# Altium schematic symbol library xNEO.SchLib: 5 symbols
Pins are listed as number, name and electrical type; pins without a type are passive.

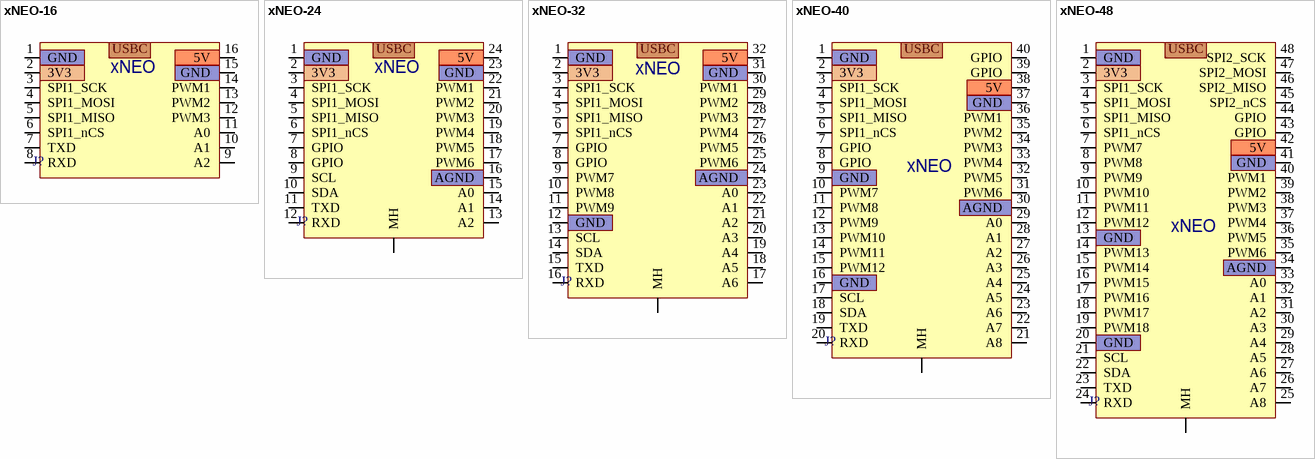
[diagram p0: symbols xNEO-16 to xNEO-48]

## xNEO-16
designator J?  (no BOM)
pins: 1 GND, 2 3V3, 3 SPI1_SCK, 4 SPI1_MOSI, 5 SPI1_MISO, 6 SPI1_nCS, 7 TXD, 8 RXD, 9 A2, 10 A1, 11 A0, 12 PWM3, 13 PWM2, 14 PWM1, 15 GND, 16 5V
text: USBC; xNEO

## xNEO-24
designator J?  (no BOM)
pins: 1 GND, 2 3V3, 3 SPI1_SCK, 4 SPI1_MOSI, 5 SPI1_MISO, 6 SPI1_nCS, 7 GPIO, 8 GPIO, 9 SCL, 10 SDA, 11 TXD, 12 RXD, 13 A2, 14 A1, 15 A0, 16 AGND, 17 PWM6, 18 PWM5, 19 PWM4, 20 PWM3, 21 PWM2, 22 PWM1, 23 GND, 24 5V, MH
text: USBC; xNEO

## xNEO-32
designator J?  (no BOM)
pins: 1 GND, 2 3V3, 3 SPI1_SCK, 4 SPI1_MOSI, 5 SPI1_MISO, 6 SPI1_nCS, 7 GPIO, 8 GPIO, 9 PWM7, 10 PWM8, 11 PWM9, 12 GND, 13 SCL, 14 SDA, 15 TXD, 16 RXD, 17 A6, 18 A5, 19 A4, 20 A3, 21 A2, 22 A1, 23 A0, 24 AGND, 25 PWM6, 26 PWM5, 27 PWM4, 28 PWM3, 29 PWM2, 30 PWM1, 31 GND, 32 5V, MH
text: USBC; xNEO

## xNEO-40
designator J?  (no BOM)
pins: 1 GND, 2 3V3, 3 SPI1_SCK, 4 SPI1_MOSI, 5 SPI1_MISO, 6 SPI1_nCS, 7 GPIO, 8 GPIO, 9 GND, 10 PWM7, 11 PWM8, 12 PWM9, 13 PWM10, 14 PWM11, 15 PWM12, 16 GND, 17 SCL, 18 SDA, 19 TXD, 20 RXD, 21 A8, 22 A7, 23 A6, 24 A5, 25 A4, 26 A3, 27 A2, 28 A1, 29 A0, 30 AGND, 31 PWM6, 32 PWM5, 33 PWM4, 34 PWM3, 35 PWM2, 36 PWM1, 37 GND, 38 5V, 39 GPIO, 40 GPIO, MH
text: USBC; xNEO

## xNEO-48
designator J?  (no BOM)
pins: 1 GND, 2 3V3, 3 SPI1_SCK, 4 SPI1_MOSI, 5 SPI1_MISO, 6 SPI1_nCS, 7 PWM7, 8 PWM8, 9 PWM9, 10 PWM10, 11 PWM11, 12 PWM12, 13 GND, 14 PWM13, 15 PWM14, 16 PWM15, 17 PWM16, 18 PWM17, 19 PWM18, 20 GND, 21 SCL, 22 SDA, 23 TXD, 24 RXD, 25 A8, 26 A7, 27 A6, 28 A5, 29 A4, 30 A3, 31 A2, 32 A1, 33 A0, 34 AGND, 35 PWM6, 36 PWM5, 37 PWM4, 38 PWM3, 39 PWM2, 40 PWM1, 41 GND, 42 5V, 43 GPIO, 44 GPIO, 45 SPI2_nCS, 46 SPI2_MISO, 47 SPI2_MOSI, 48 SPI2_SCK, MH
text: USBC; xNEO